# Altium footprint library 2086581001.PcbLib: 1 footprints
Each footprint in its own frame and in the unit in brackets; x right, y up, seen from the top. Pads: shape width x height; smd on the part's side, far side on the other; paste and mask are expansions set on the pad; w line width, h text height; cw(c..) or ccw(c..) is an arc to the next point about the centre after c.
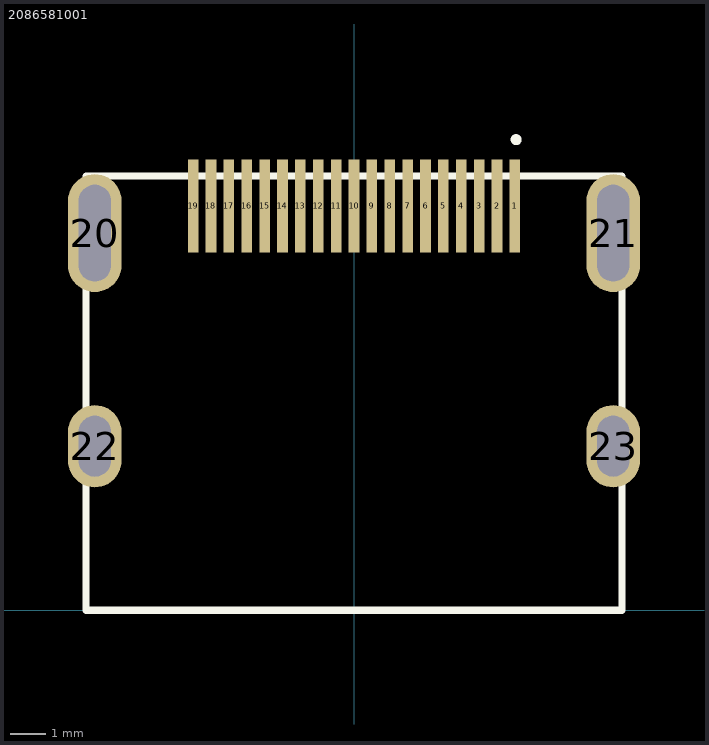
[diagram p0: the footprint, top view; thin cyan lines are the x and y axes]

## 2086581001 [mm]
pads (23):
  rect 0.3x2.6 smd: 1(4.5,11.31) 2(4,11.31) 3(3.5,11.31) 4(3,11.31) 5(2.5,11.31) 6(2,11.31) 7(1.5,11.31) 8(1,11.31) 9(0.5,11.31) 10(0,11.31) 11(-0.5,11.31) 12(-1,11.31) 13(-1.5,11.31) 14(-2,11.31) 15(-2.5,11.31) 16(-3,11.31) 17(-3.5,11.31) 18(-4,11.31) 19(-4.5,11.31)
  oval 1.5x3.3 hole 2.7 slot 0.9 at 0 deg: 20(-7.25,10.55) 21(7.25,10.55)
  oval 1.5x2.3 hole 1.7 slot 0.9 at 0 deg: 22(-7.25,4.59) 23(7.25,4.59)
Top Overlay:
  circle w0.2: c4.536,13.165 r0.054
  lines w0.2: -7.5,0 7.5,0 7.5,12.15 -7.5,12.15 -7.5,0
3D body "2086581001.stp": height 6.16, standoff -2.23, extent -7.499,0 7.501,12.15